# Altium schematic symbol library diode_VLMx1501.SchLib: 1 symbol
Pins are listed as number, name and electrical type; pins without a type are passive.

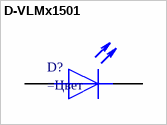
[diagram p0: symbol D-VLMx1501]

## D-VLMx1501
designator D?
=Описание; ComponentLink1Description: datasheet; ComponentLink1URL: https://www.vishay.com/docs/82554/vlmo1500.pdf
pins: 1, 2